# Altium footprint library 研发中心PCB库文件.PcbLib: 333 footprints (part 21 of 21)
Each footprint in its own frame and in the unit in brackets; x right, y up, seen from the top. Pads: shape width x height; smd on the part's side, far side on the other; paste and mask are expansions set on the pad; w line width, h text height; cw(c..) or ccw(c..) is an arc to the next point about the centre after c.
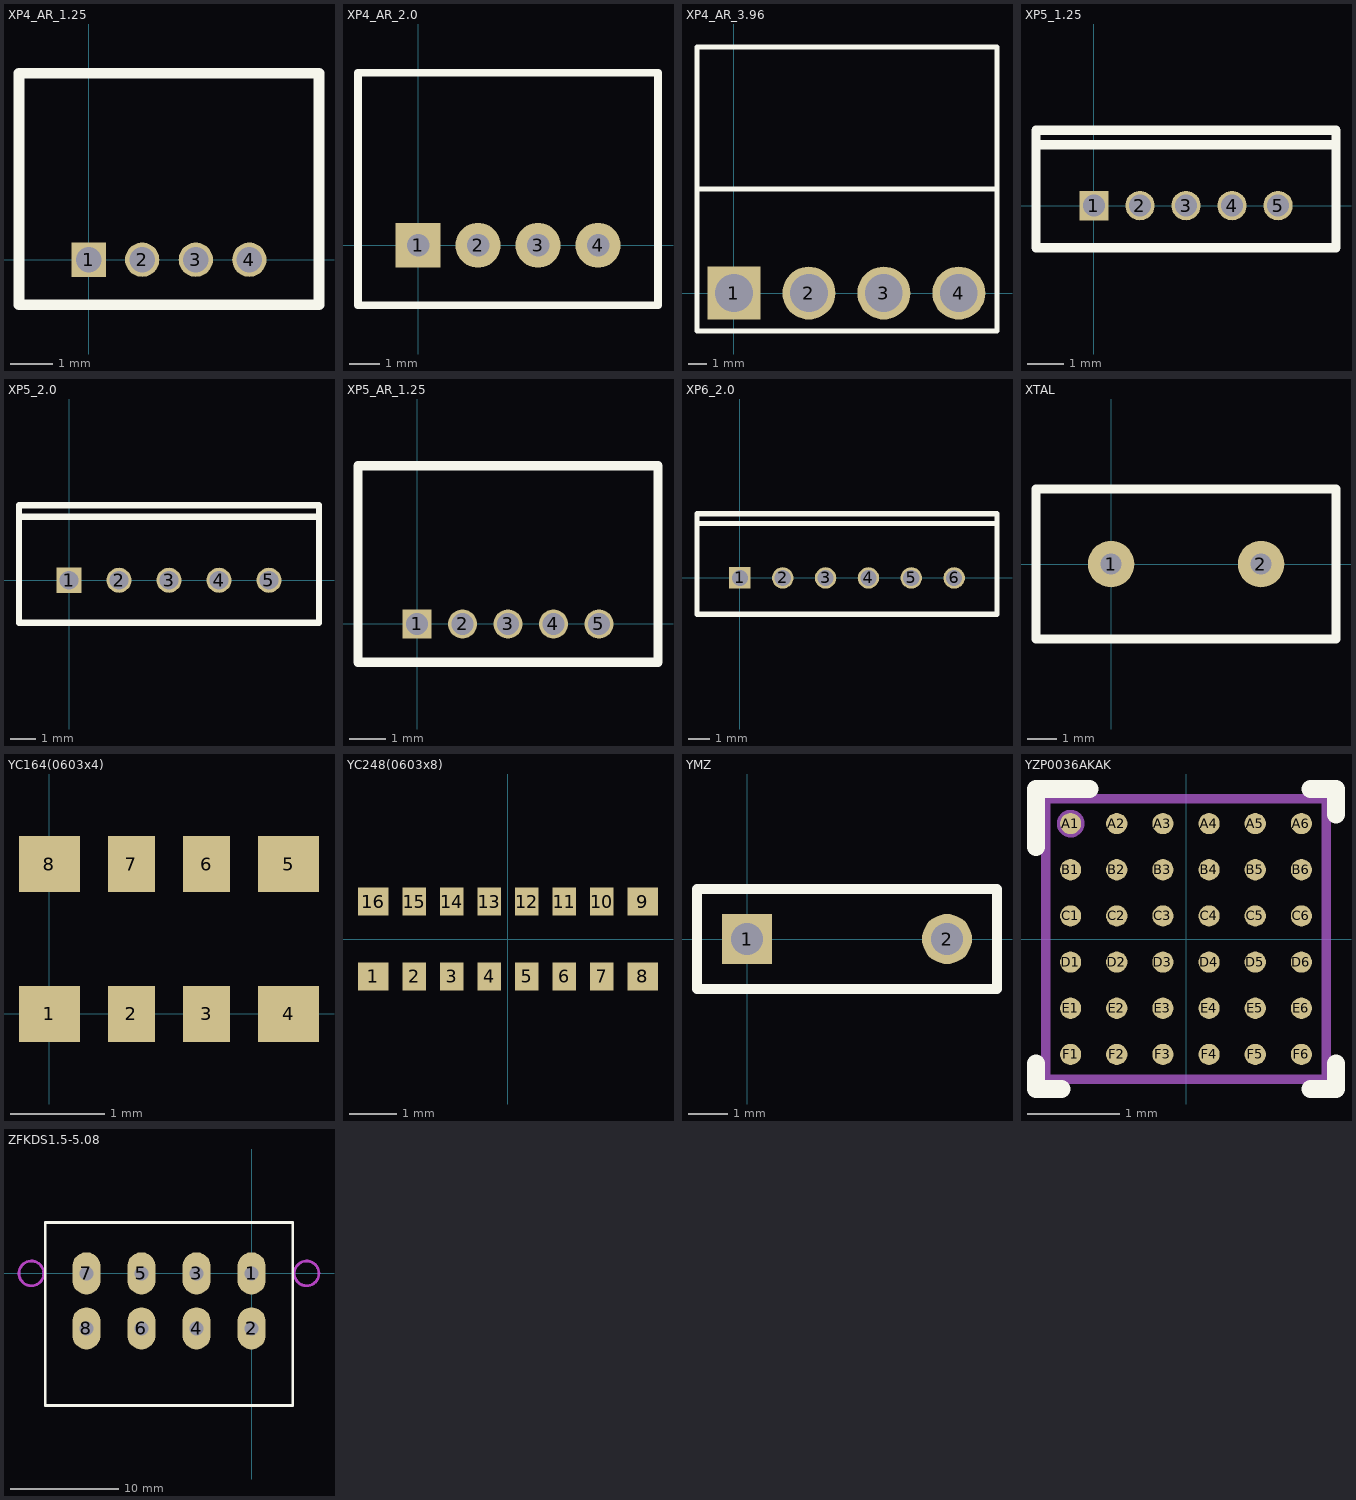
[diagram p20: the footprints below, top view; thin cyan lines are the x and y axes]

## XP4_AR_1.25 [mm]
pads (4):
  rect 0.8x0.8 hole 0.6: 1(0,0)
  round 0.8 hole 0.6: 2(1.25,0) 3(2.5,0) 4(3.75,0)
Top Overlay:
  lines w0.254: -1.625,-1.05 5.375,-1.05 5.375,4.35 -1.625,4.35 -1.625,-1.05

## XP4_AR_2.0 [mm]
pads (4):
  rect 1.5x1.5 hole 0.75: 1(0,0)
  round 1.5 hole 0.75: 2(2,0) 3(4,0) 4(6,0)
Top Overlay:
  lines w0.254: -2,-2 -2,5.75 8,5.75 8,-2 -2,-2

## XP4_AR_3.96 [mm]
pads (4):
  rect 2.8x2.8 hole 2: 1(0,0)
  round 2.8 hole 2: 2(3.96,0) 3(7.92,0) 4(11.88,0)
Top Overlay:
  lines w0.254: -1.95,5.5 13.9,5.5 ; -1.95,-2 13.9,-2 13.9,13 -1.95,13 -1.95,-2

## XP5_1.25 [mm]
pads (5):
  rect 0.8x0.8 hole 0.6: 1(0,0)
  round 0.8 hole 0.6: 2(1.25,0) 3(2.5,0) 4(3.75,0) 5(5,0)
Top Overlay:
  lines w0.254: -1.575,1.651 6.575,1.651 ; -1.575,-1.15 6.575,-1.15 6.575,2.05 -1.575,2.05 -1.575,-1.15

## XP5_2.0 [mm]
pads (5):
  rect 1x1 hole 0.75: 1(0,0)
  round 1 hole 0.75: 2(2,0) 3(4,0) 4(6,0) 5(8,0)
Top Overlay:
  lines w0.254: -2,2.54 10,2.54 ; -2,-1.7 10,-1.7 10,3 -2,3 -2,-1.7

## XP5_AR_1.25 [mm]
pads (5):
  rect 0.8x0.8 hole 0.6: 1(0,0)
  round 0.8 hole 0.6: 2(1.25,0) 3(2.5,0) 4(3.75,0) 5(5,0)
Top Overlay:
  lines w0.254: -1.625,-1.05 -1.625,4.35 6.625,4.35 6.625,-1.05 -1.625,-1.05

## XP6_2.0 [mm]
pads (6):
  rect 1x1 hole 0.75: 1(0,0)
  round 1 hole 0.75: 2(2,0) 3(4,0) 4(6,0) 5(8,0) 6(10,0)
Top Overlay:
  lines w0.254: -2,2.54 12,2.54 ; -2,-1.7 -2,3 12,3 12,-1.7 -2,-1.7

## XTAL [mil]
pads (2):
  round 62 hole 28: 1(0,0) 2(200,0)
Top Overlay:
  lines w12: -100,-100 -100,100 300,100 300,-100 -100,-100

## YC164(0603x4) [mm]
pads (8):
  rect 0.65x0.6 smd: 1(0,0) 4(2.55,0) 5(2.55,1.6) 8(0,1.6)
  rect 0.5x0.6 smd: 2(0.875,0) 3(1.675,0) 6(1.675,1.6) 7(0.875,1.6)

## YC248(0603x8) [mm]
pads (16):
  rect 0.65x0.6 smd: 1(-2.875,-0.8) 8(2.875,-0.8) 9(2.875,0.8) 16(-2.875,0.8)
  rect 0.5x0.6 smd: 2(-2,-0.8) 3(-1.2,-0.8) 4(-0.4,-0.8) 5(0.4,-0.8) 6(1.2,-0.8) 7(2,-0.8) 10(2,0.8) 11(1.2,0.8) 12(0.4,0.8) 13(-0.4,0.8) 14(-1.2,0.8) 15(-2,0.8)

## YMZ [mil]
height 47.24
pads (2):
  rect 50x50 hole 32: 1(0,0)
  round 50 hole 32: 2(200,0)
Top Overlay:
  lines w10: -50,-50 -50,50 250,50 250,-50 -50,-50

## YZP0036AKAK [mm]
pads (36):
  round 0.23 smd paste-0.102 mask+0.038: A1(-1.25,1.25) A2(-0.75,1.25) A3(-0.25,1.25) A4(0.25,1.25) A5(0.75,1.25) A6(1.25,1.25) B1(-1.25,0.75) B2(-0.75,0.75) B3(-0.25,0.75) B4(0.25,0.75) B5(0.75,0.75) B6(1.25,0.75) C1(-1.25,0.25) C2(-0.75,0.25) C3(-0.25,0.25) C4(0.25,0.25) C5(0.75,0.25) C6(1.25,0.25) D1(-1.25,-0.25) D2(-0.75,-0.25) D3(-0.25,-0.25) D4(0.25,-0.25) D5(0.75,-0.25) D6(1.25,-0.25) E1(-1.25,-0.75) E2(-0.75,-0.75) E3(-0.25,-0.75) E4(0.25,-0.75) E5(0.75,-0.75) E6(1.25,-0.75) F1(-1.25,-1.25) F2(-0.75,-1.25) F3(-0.25,-1.25) F4(0.25,-1.25) F5(0.75,-1.25) F6(1.25,-1.25)
Top Overlay:
  lines w0.2: -1.625,-1.35 -1.625,-1.625 -1.35,-1.625 ; -1.625,1 -1.625,1.625 -1.05,1.625 ; 1.35,-1.625 1.625,-1.625 1.625,-1.35 ; 1.35,1.625 1.625,1.625 1.625,1.35
Top Paste:
  drawing of 216 lines, arcs and shapes, not listed
Mechanical 1:
  circle w0.1: c-1.25,1.25 r0.1
  lines w0.1: -1.52,-1.52 1.52,-1.52 1.52,1.52 -1.52,1.52 -1.52,-1.52

## ZFKDS1.5-5.08 [mm]
pads (8):
  oval 2.6x3.9 hole 1.3: 1(0,0) 2(0,-5.08) 3(-5.08,0) 4(-5.08,-5.08) 5(-10.16,0) 6(-10.16,-5.08) 7(-15.24,0) 8(-15.24,-5.08)
Top Overlay:
  lines w0.254: -19.05,-12.192 3.81,-12.192 3.81,4.699 -19.05,4.699 -19.05,-12.192
Mechanical 1 keep-out:
  circle w0.254: c5.08,0 r1.143
  circle w0.254: c-20.32,0 r1.143